# Altium footprint library Resistor.PcbLib: 5 footprints
Each footprint in its own frame and in the unit in brackets; x right, y up, seen from the top. Pads: shape width x height; smd on the part's side, far side on the other; paste and mask are expansions set on the pad; w line width, h text height; cw(c..) or ccw(c..) is an arc to the next point about the centre after c.
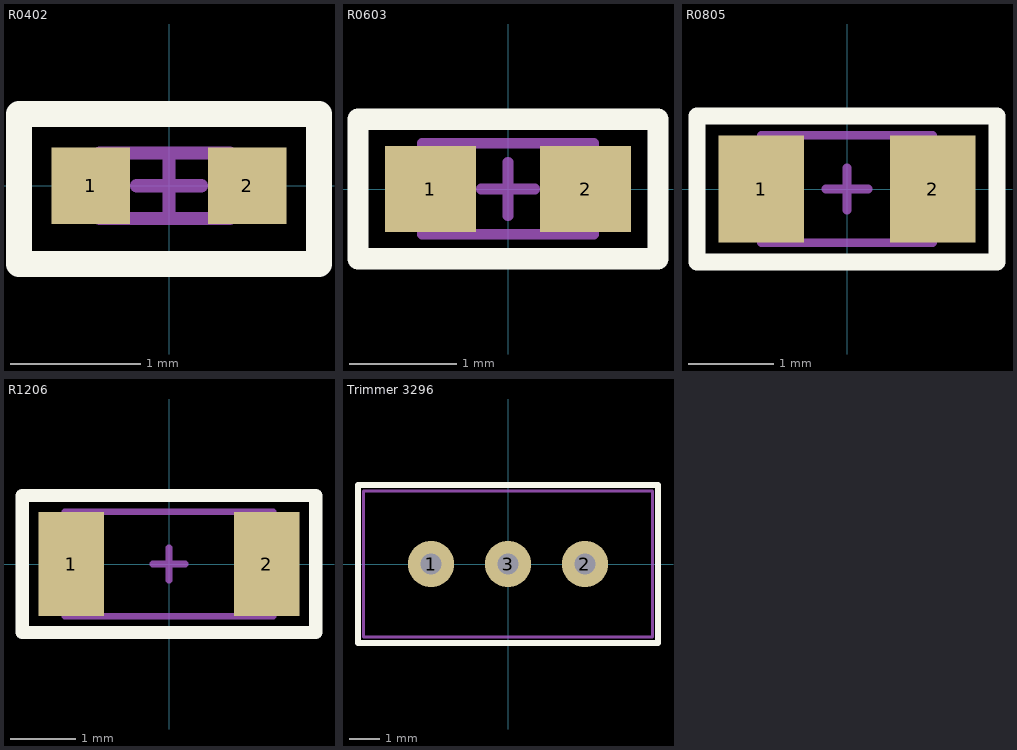
[diagram p0: the footprints below, top view; thin cyan lines are the x and y axes]

## R0402 [mm]
pads (2):
  rect 0.6x0.59 smd: 1(-0.6,0) 2(0.6,0)
Top Overlay:
  lines w0.2: -1.15,-0.6 1.15,-0.6 1.15,0.55 -1.15,0.55 -1.15,-0.6
Top Assy:
  lines w0.1: -0.532,-0.25 -0.532,0.25 0.468,0.25 0.468,-0.25 -0.532,-0.25
Border:
  lines w0.1: -0.25,0 0.25,0 ; 0,-0.25 0,0.25 ; -1.15,-0.55 -1.15,0.55 1.15,0.55 1.15,-0.55 0.575,-0.55 -0.575,-0.55 -1.15,-0.55
3D body "User Library-R SMD 0402.STEP": height 0.34, standoff -0.01, extent -0.532,-0.25 0.468,0.25

## R0603 [mm]
pads (2):
  rect 0.85x0.8 smd: 1(-0.725,0) 2(0.725,0)
Top Overlay:
  lines w0.2: -1.4,-0.65 -1.4,0.65 1.4,0.65 1.4,-0.65 -1.4,-0.65
Top Assy:
  lines w0.1: -0.8,-0.422 0.8,-0.422 0.8,0.428 -0.8,0.428 -0.8,-0.422
Border:
  lines w0.1: -0.25,0 0.25,0 ; 0,-0.25 0,0.25 ; -1.4,-0.65 -1.4,0.65 1.4,0.65 1.4,-0.65 -1.4,-0.65
3D body "User Library-R SMD 0603.STEP": height 0.45, standoff 0, extent -0.799,-0.422 0.841,0.428

## R0805 [mm]
pads (2):
  rect 1x1.25 smd: 1(-1,0) 2(1,0)
Top Overlay:
  lines w0.2: -1.75,-0.85 -1.75,0.85 1.75,0.85 1.75,-0.85 -1.75,-0.85
Top Assy:
  lines w0.1: -1,-0.625 -1,0.625 1,0.625 1,-0.625 -1,-0.625
Border:
  lines w0.1: -0.25,0 0.25,0 ; 0,-0.25 0,0.25 ; -1.75,-0.85 -1.75,0.85 1.75,0.85 1.75,-0.85 -1.75,-0.85
3D body "User Library-R SMD 0805.STEP": height 0.44, standoff -0.01, extent -1.001,-0.625 0.999,0.625
3D body "User Library-R_0805.STEP": height 0.5, standoff 0, extent -1,-0.625 1,0.625
3D body "User Library-R-0805 (1).step": height 0.63, standoff -0.63, extent -1,-0.01 1,0.441
3D body "User Library-R_0805.STEP": height 0.5, standoff 0, extent -1,-0.625 1,0.625

## R1206 [mm]
pads (2):
  rect 1x1.6 smd: 1(-1.5,0) 2(1.5,0)
Top Overlay:
  lines w0.2: -2.25,-1.05 -2.25,1.05 2.25,1.05 2.25,-1.05 -2.25,-1.05
Top Assy:
  lines w0.1: -1.6,-0.8 1.6,-0.8 1.6,0.8 -1.6,0.8 -1.6,-0.8
Border:
  lines w0.1: -0.25,0 0.25,0 ; 0,-0.25 0,0.25 ; -2.25,-1.05 -2.25,1.05 2.25,1.05 2.25,-1.05 -2.25,-1.05
3D body "User Library-R SMD 1206.STEP": height 0.54, standoff -0.01, extent -1.6,-0.8 1.6,0.8

## Trimmer 3296 [mil]
pads (3):
  round 60 hole 27.56: 1(-100,0) 2(100,0) 3(0,0)
Top Overlay:
  lines w7.87: -194.88,-102.36 -194.88,102.36 194.88,102.36 194.88,-102.36 -194.88,-102.36
Top Assy:
  lines w3.94: -187.59,-95.07 187.6,-95.07 187.6,95.08 -187.59,95.08 -187.59,-95.07
Border:
  lines w3.94: -194.88,-102.36 -194.88,102.36 194.88,102.36 194.88,-102.36 -194.88,-102.36
3D body "User Library-3296_Bourns.step": height 455.12, standoff -299.61, extent -187.59,-95.07 187.6,95.08